# Altium footprint library EF20.PcbLib: 1 footprints
Each footprint in its own frame and in the unit in brackets; x right, y up, seen from the top. Pads: shape width x height; smd on the part's side, far side on the other; paste and mask are expansions set on the pad; w line width, h text height; cw(c..) or ccw(c..) is an arc to the next point about the centre after c.
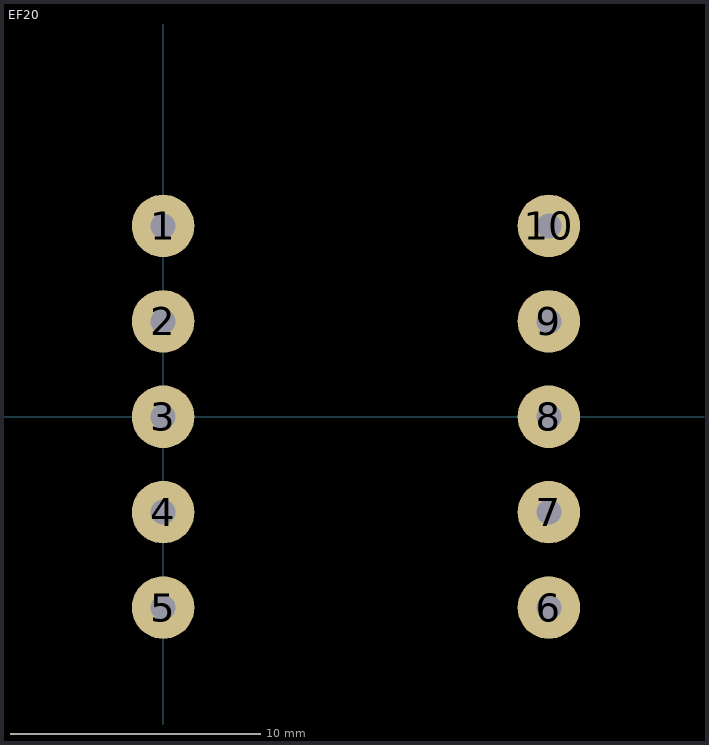
[diagram p0: the footprint, top view; thin cyan lines are the x and y axes]

## EF20 [mm] "Epcos EF20 transformer core/bobbin. Vertical Version. Woohoo!"
height 21.8
pads (10):
  round 2.5 hole 1: 1(0,7.62) 2(0,3.81) 3(0,0) 4(0,-3.81) 5(0,-7.62) 6(15.41,-7.62) 7(15.41,-3.81) 8(15.41,0) 9(15.41,3.81) 10(15.41,7.62)
Bottom Overlay:
  circle w0.254: c-0.414,13 r1.414
  lines w0.254: -3,-11 -3,11 18.25,11 18.25,-11 -3,-11